# Altium footprint library BNO085.PcbLib: 1 footprints
Each footprint in its own frame and in the unit in brackets; x right, y up, seen from the top. Pads: shape width x height; smd on the part's side, far side on the other; paste and mask are expansions set on the pad; w line width, h text height; cw(c..) or ccw(c..) is an arc to the next point about the centre after c.
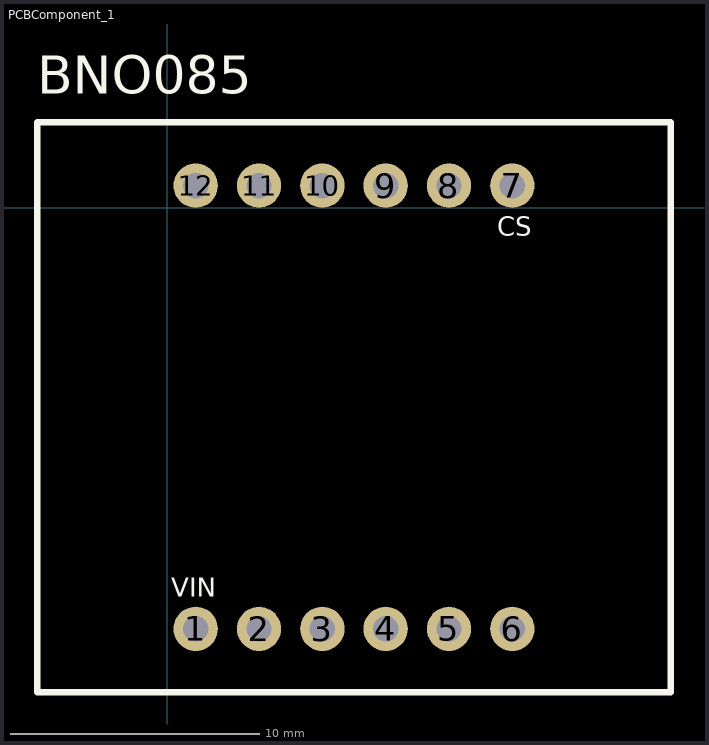
[diagram p0: the footprint, top view; thin cyan lines are the x and y axes]

## PCBComponent_1 [mil]
pads (12):
  round 70 hole 40: 1(45,-665) 2(145,-665) 3(245,-665) 4(345,-665) 5(445,-665) 6(545,-665) 7(545,35) 8(445,35) 9(345,35) 10(245,35) 11(145,35) 12(45,35)
Top Overlay:
  lines w10: -205,-765 -205,135 795,135 795,-765 -205,-765
  text "CS" at 521,-44 h30
  text "VIN" at 6,-614 h30
  text "BNO085" at -205,180 h60
3D body "Adafruit BNO085 STEMMA QT.step": height 281.1, standoff 100, extent -200,-760 800,140